# EAGLE library part WI.232EUR (library modules)
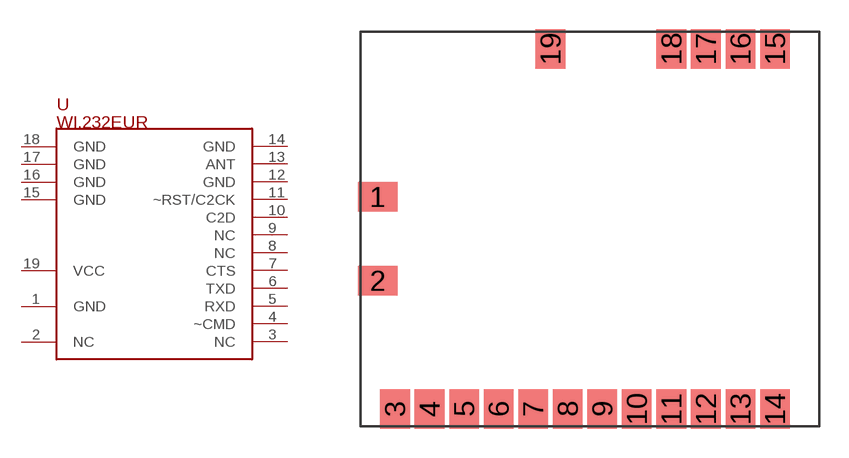
[diagram p1: symbol with the pads of WI.232DTS; footprint WI.232DTS]

Designator prefix U

## WI.232EUR  [WI.232DTS]
1  GND
2  NC
3  NC
4  ~CMD
5  RXD
6  TXD
7  CTS
8  NC
9  NC
10  C2D
11  ~RST/C2CK
12  GND
13  ANT
14  GND
15  GND
16  GND
17  GND
18  GND
19  VCC

## Footprint WI.232DTS (pad centres in mm)
smd 2.032 x 1.524: 1 0.889,11.811; 2 0.889,7.493
smd 1.524 x 2.032: 3 1.778,0.889; 4 3.556,0.889; 5 5.334,0.889; 6 7.112,0.889; 7 8.89,0.889; 8 10.668,0.889; 9 12.446,0.889; 10 14.224,0.889; 11 16.002,0.889; 12 17.78,0.889; 13 19.558,0.889; 14 21.336,0.889; 15 21.336,19.431; 16 19.558,19.431; 17 17.78,19.431; 18 16.002,19.431; 19 9.779,19.431